# Altium schematic symbol library R_0R_RK73Z1ETTP.SchLib: 1 symbol
Pins are listed as number, name and electrical type; pins without a type are passive.

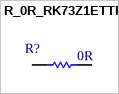
[diagram p0: symbol R_0R_RK73Z1ETTP]

## R_0R_RK73Z1ETTP
designator R?  (value not drawn)
footprint RESC1005X03N (Chip Resistor, 2-Leads, Body 1.00x0.50mm, IPC Medium Density)
pins: 1, 2
text: 0R